# Altium footprint library PcbLib_Acura.PcbLib: 137 footprints (part 3 of 9)
Each footprint in its own frame and in the unit in brackets; x right, y up, seen from the top. Pads: shape width x height; smd on the part's side, far side on the other; paste and mask are expansions set on the pad; w line width, h text height; cw(c..) or ccw(c..) is an arc to the next point about the centre after c.
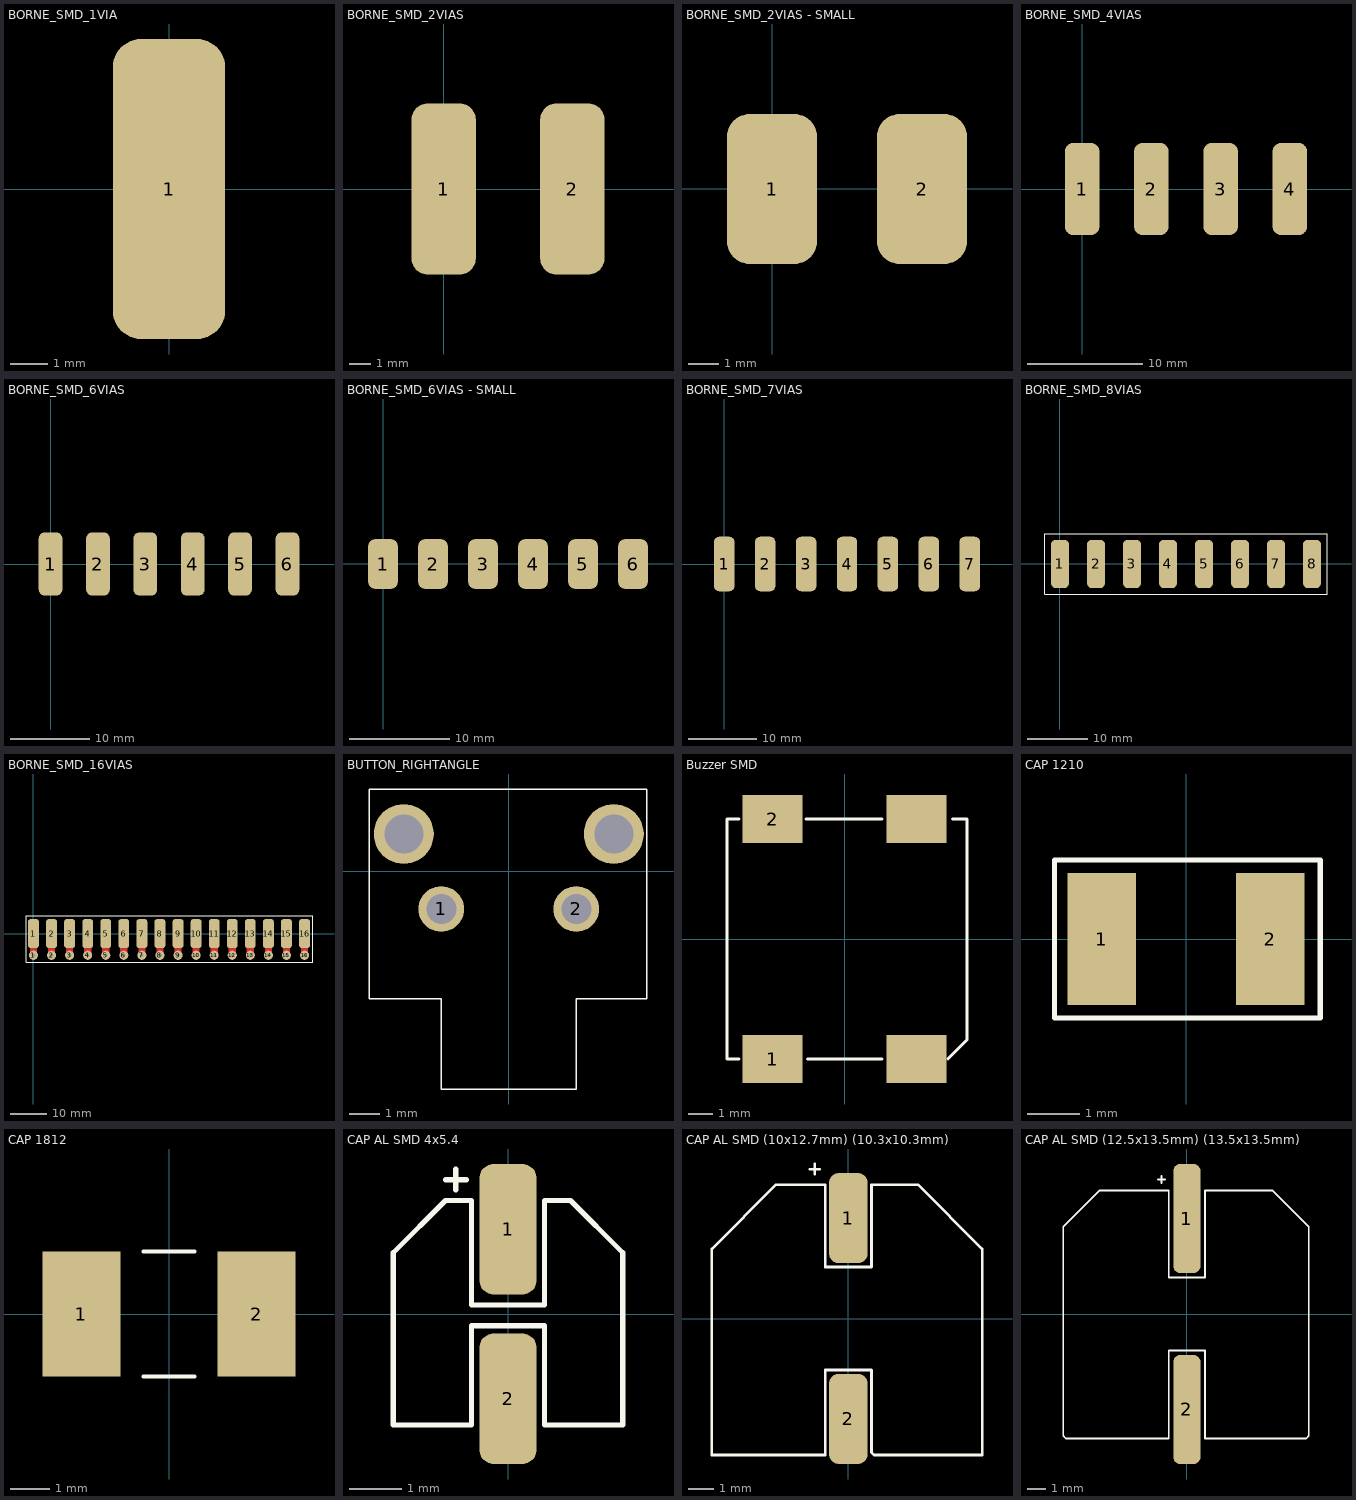
[diagram p2: the footprints below, top view; thin cyan lines are the x and y axes]

## BORNE_SMD_1VIA [mm]
pads (1):
  rrect50% 3x8 smd: 1(0,0)

## BORNE_SMD_2VIAS [mm]
pads (2):
  rrect50% 3x8 smd: 1(0,0) 2(6,0)

## BORNE_SMD_2VIAS - SMALL [mm]
pads (2):
  rrect50% 3x5 smd: 1(-0.01,-0.01) 2(4.99,-0.01)

## BORNE_SMD_4VIAS [mm]
pads (4):
  rrect50% 3x8 smd: 1(0,0) 2(6,0) 3(12,0) 4(18,0)

## BORNE_SMD_6VIAS [mm]
pads (6):
  rrect50% 3x8 smd: 1(0,0) 2(6,0) 3(12,0) 4(18,0) 5(24,0) 6(30,0)

## BORNE_SMD_6VIAS - SMALL [mm]
pads (6):
  rrect50% 3x5 smd: 1(-0.01,-0.01) 2(4.99,-0.01) 3(9.99,-0.01) 4(14.99,-0.01) 5(19.99,-0.01) 6(24.99,-0.01)

## BORNE_SMD_7VIAS [mm]
pads (7):
  rrect50% 3x8 smd: 1(0,0) 2(6,0) 3(12,0) 4(18,0) 5(24,0) 6(30,0) 7(36,0)

## BORNE_SMD_8VIAS [mm]
pads (8):
  rrect50% 3x8 smd: 1(0,0) 2(6,0) 3(12,0) 4(18,0) 5(24,0) 6(30,0) 7(36,0) 8(42,0)
Top Overlay:
  lines w0.1: -2.54,-5.08 -2.54,5.055 44.552,5.055 44.552,-5.08 -2.54,-5.08

## BORNE_SMD_16VIAS [mm]
pads (32):
  round 2.524 hole 1: 1(0,-6) 2(5,-6) 3(10,-6) 4(15,-6) 5(20,-6) 6(25,-6) 7(30,-6) 8(35,-6) 9(40,-6) 10(45,-6) 11(50,-6) 12(55,-6) 13(60,-6) 14(65,-6) 15(70,-6) 16(75,-6)
  rrect50% 3x8 smd: 1(0,0) 2(5,0) 3(10,0) 4(15,0) 5(20,0) 6(25,0) 7(30,0) 8(35,0) 9(40,0) 10(45,0) 11(50,0) 12(55,0) 13(60,0) 14(65,0) 15(70,0) 16(75,0)
Top Layer:
  lines w2: 0,-6 0,0 ; 5,-6 5,0 ; 10,-6 10,0 ; 15,-6 15,0 ; 20,-6 20,0 ; 25,-6 25,0 ; 30,-6 30,0 ; 35,-6 35,0 ; 40,-6 40,0 ; 45,-6 45,0 ; 50,-6 50,0 ; 55,-6 55,0 ; 60,-6 60,0 ; 65,-6 65,0 ; 70,-6 70,0 ; 75,-6 75,0
Top Overlay:
  lines w0.1: -2,-8 -2,5 77.267,5 77.267,-8 -2,-8

## BUTTON_RIGHTANGLE [mm]
pads (4):
  round 1.524 hole 1: 1(-2.25,-1.25) 2(2.25,-1.25)
  round 2 hole 1.3: ""(-3.5,1.25) ""(3.5,1.25)
Top Overlay:
  lines w0.05: -4.65,-4.25 -4.65,-0.65 -4.65,2.75 4.6,2.75 4.6,-0.6 4.6,-4.25 2.25,-4.25 2.25,-7.25 -0.25,-7.25 -2.25,-7.25 -2.25,-4.25 -4.65,-4.25

## Buzzer SMD [mm] "BUZZER MAGNETIC 5V 10MM SMD"
pads (4):
  rect 2.5x2 smd: 1(-3,-5) 2(-3,5) ""(3,-5) ""(3,5)
Top Overlay:
  lines w0.127: -4.4,-5 -4.9,-5 -4.9,5 -4.4,5 ; -1.6,5 1.55,5 ; -1.55,-5 1.55,-5 ; 4.3,-5 5.1,-4.2 5.1,5 4.5,5

## CAP 1210 [mm]
pads (2):
  rect 1.3x2.5 smd: 1(-1.6,0) 2(1.6,0)
Top Overlay:
  lines w0.1: -2.5,-1.5 -2.5,0 -2.5,1.5 2.55,1.5 2.55,-1.5 -2.5,-1.5

## CAP 1812 [mm]
pads (2):
  rect 2x3.2 smd: 1(-2.25,0) 2(2.25,0)
Top Overlay:
  lines w0.1: -0.65,-1.6 0.65,-1.6 ; -0.65,1.6 0.65,1.6

## CAP AL SMD 4x5.4 [mm]
pads (2):
  rrect50% 1.1x2.5 smd: 1(0,1.625) 2(0,-1.625)
Top Overlay:
  lines w0.1: -1.2,2.575 -0.8,2.575 ; -1,2.375 -1,2.775 ; 0.7,-1.825 0.7,-2.125 ; 0.7,-2.125 2.2,-2.125 2.2,1.175 ; 0.7,-2.125 0.7,-0.225 -0.7,-0.225 -0.7,-2.125 -2.2,-2.125 -2.2,1.175 -1.2,2.175 -0.7,2.175 -0.7,1.875 -0.7,0.175 0.7,0.175 ; 0.7,0.175 0.7,2.175 ; 0.7,0.175 0.7,2.175 ; 0.7,2.175 1.2,2.175 ; 1.2,2.175 2.2,1.175 ; 1.2,2.175 2.2,1.175

## CAP AL SMD (10x12.7mm) (10.3x10.3mm) [mm]
pads (2):
  rrect50% 1.5x3.5 smd: 1(0,3.9) 2(0,-3.9)
Top Overlay:
  lines w0.1: -1.5,5.8 -1.1,5.8 ; -1.3,5.6 -1.3,6 ; -5.3,-5.3 -5.3,2.7 ; -5.3,-5.3 -0.9,-5.3 -0.9,-2 0.9,-2 0.9,-5.2 1,-5.3 ; -5.3,-5.3 -5.3,2.7 ; -5.3,2.7 -2.8,5.2 -0.9,5.2 -0.9,2 0.9,2 0.9,5.2 2.7,5.2 5.2,2.7 ; 1,-5.3 5.2,-5.3 ; 1,-5.3 1,-5.3 ; 5.2,-5.3 5.2,2.7 ; 5.2,-5.3 5.2,-5.3 ; 5.2,-5.3 5.2,2.7

## CAP AL SMD (12.5x13.5mm) (13.5x13.5mm) [mm]
pads (2):
  rrect50% 1.5x6 smd: 1(0,5.25) 2(0,-5.25)
Top Overlay:
  lines w0.1: -1.6,7.4 -1.2,7.4 ; -1.4,7.2 -1.4,7.6 ; -6.8,-6.7 -6.8,4.8 ; -6.8,-6.7 -6.8,4.8 ; -6.8,-6.7 -6.65,-6.85 -1,-6.85 -1,-2 1,-2 1,-5.2 1,-6.85 6.55,-6.85 6.7,-6.7 ; -6.8,4.8 -4.8,6.8 ; -6.8,4.8 -4.8,6.8 ; -4.8,6.8 -1,6.8 -1,2 1,2 1,6.8 4.7,6.8 6.7,4.8 ; 6.7,-6.7 6.7,4.8 ; 6.7,-6.7 6.7,4.8